# Altium footprint library Components - 18.07.26 - 23.12.PcbLib: 1 footprints
Each footprint in its own frame and in the unit in brackets; x right, y up, seen from the top. Pads: shape width x height; smd on the part's side, far side on the other; paste and mask are expansions set on the pad; w line width, h text height; cw(c..) or ccw(c..) is an arc to the next point about the centre after c.
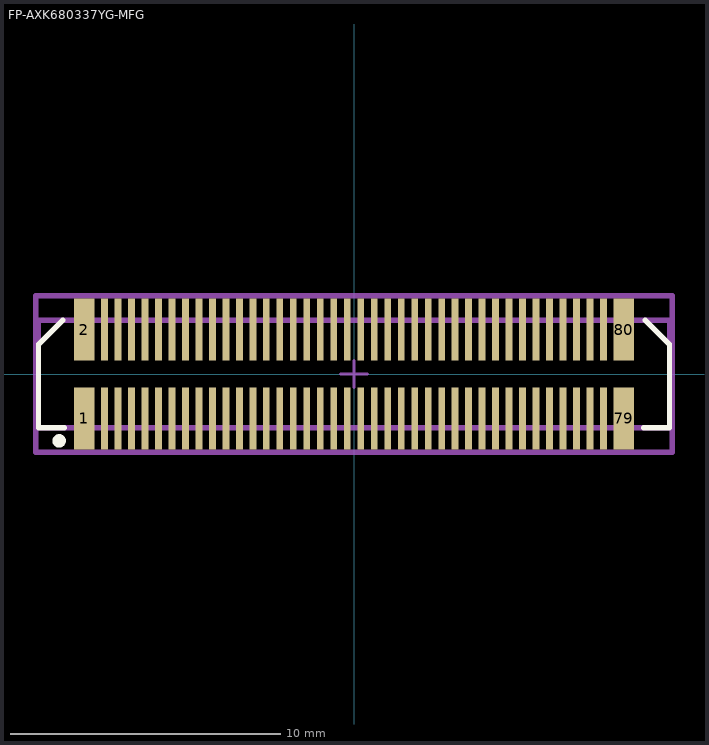
[diagram p0: the footprint, top view; thin cyan lines are the x and y axes]

## FP-AXK680337YG-MFG [mm]
pads (80):
  rect 0.75x2.3 smd paste-1000 mask+0: 1(-10,-1.65) 2(-10,1.65) 79(10,-1.65) 80(10,1.65)
  rect 0.25x2.3 smd paste-1000 mask+0: 3(-9.25,-1.65) 4(-9.25,1.65) 5(-8.75,-1.65) 6(-8.75,1.65) 7(-8.25,-1.65) 8(-8.25,1.65) 9(-7.75,-1.65) 10(-7.75,1.65) 11(-7.25,-1.65) 12(-7.25,1.65) 13(-6.75,-1.65) 14(-6.75,1.65) 15(-6.25,-1.65) 16(-6.25,1.65) 17(-5.75,-1.65) 18(-5.75,1.65) 19(-5.25,-1.65) 20(-5.25,1.65) 21(-4.75,-1.65) 22(-4.75,1.65) 23(-4.25,-1.65) 24(-4.25,1.65) 25(-3.75,-1.65) 26(-3.75,1.65) 27(-3.25,-1.65) 28(-3.25,1.65) 29(-2.75,-1.65) 30(-2.75,1.65) 31(-2.25,-1.65) 32(-2.25,1.65) 33(-1.75,-1.65) 34(-1.75,1.65) 35(-1.25,-1.65) 36(-1.25,1.65) 37(-0.75,-1.65) 38(-0.75,1.65) 39(-0.25,-1.65) 40(-0.25,1.65) 41(0.25,-1.65) 42(0.25,1.65) 43(0.75,-1.65) 44(0.75,1.65) 45(1.25,-1.65) 46(1.25,1.65) 47(1.75,-1.65) 48(1.75,1.65) 49(2.25,-1.65) 50(2.25,1.65) 51(2.75,-1.65) 52(2.75,1.65) 53(3.25,-1.65) 54(3.25,1.65) 55(3.75,-1.65) 56(3.75,1.65) 57(4.25,-1.65) 58(4.25,1.65) 59(4.75,-1.65) 60(4.75,1.65) 61(5.25,-1.65) 62(5.25,1.65) 63(5.75,-1.65) 64(5.75,1.65) 65(6.25,-1.65) 66(6.25,1.65) 67(6.75,-1.65) 68(6.75,1.65) 69(7.25,-1.65) 70(7.25,1.65) 71(7.75,-1.65) 72(7.75,1.65) 73(8.25,-1.65) 74(8.25,1.65) 75(8.75,-1.65) 76(8.75,1.65) 77(9.25,-1.65) 78(9.25,1.65)
Top Overlay:
  circle w0.25: c-10.935,-2.48 r0.125
  lines w0.2: -10.8,2 -11.7,1.1 -11.7,-2 -10.75,-2 ; 10.75,-2 11.7,-2 11.7,1.1 10.8,2
Top Paste:
  rectangle: 9.635,-2.8 9.985,-0.85
  rectangle: 9.135,-2.8 9.365,-0.85
  rectangle: 8.635,-2.8 8.865,-0.85
  rectangle: 8.135,-2.8 8.365,-0.85
  rectangle: 7.635,-2.8 7.865,-0.85
  rectangle: 7.135,-2.8 7.365,-0.85
  rectangle: 6.635,-2.8 6.865,-0.85
  rectangle: 6.135,-2.8 6.365,-0.85
  rectangle: 5.635,-2.8 5.865,-0.85
  rectangle: 5.135,-2.8 5.365,-0.85
  rectangle: 4.635,-2.8 4.865,-0.85
  rectangle: 4.135,-2.8 4.365,-0.85
  rectangle: 3.635,-2.8 3.865,-0.85
  rectangle: 3.135,-2.8 3.365,-0.85
  rectangle: 2.635,-2.8 2.865,-0.85
  rectangle: 2.135,-2.8 2.365,-0.85
  rectangle: 1.635,-2.8 1.865,-0.85
  rectangle: 1.135,-2.8 1.365,-0.85
  rectangle: 0.635,-2.8 0.865,-0.85
  rectangle: 0.135,-2.8 0.365,-0.85
  rectangle: -0.365,-2.8 -0.135,-0.85
  rectangle: -0.865,-2.8 -0.635,-0.85
  rectangle: -1.365,-2.8 -1.135,-0.85
  rectangle: -1.865,-2.8 -1.635,-0.85
  rectangle: -2.365,-2.8 -2.135,-0.85
  rectangle: -2.865,-2.8 -2.635,-0.85
  rectangle: -3.365,-2.8 -3.135,-0.85
  rectangle: -3.865,-2.8 -3.635,-0.85
  rectangle: -4.365,-2.8 -4.135,-0.85
  rectangle: -4.865,-2.8 -4.635,-0.85
  rectangle: -5.365,-2.8 -5.135,-0.85
  rectangle: -5.865,-2.8 -5.635,-0.85
  rectangle: -6.365,-2.8 -6.135,-0.85
  rectangle: -6.865,-2.8 -6.635,-0.85
  rectangle: -7.365,-2.8 -7.135,-0.85
  rectangle: -7.865,-2.8 -7.635,-0.85
  rectangle: -8.365,-2.8 -8.135,-0.85
  rectangle: -8.865,-2.8 -8.635,-0.85
  rectangle: -9.365,-2.8 -9.135,-0.85
  rectangle: -9.985,-2.8 -9.635,-0.85
  rectangle: 9.635,0.85 9.985,2.8
  rectangle: 9.135,0.85 9.365,2.8
  rectangle: 8.635,0.85 8.865,2.8
  rectangle: 8.135,0.85 8.365,2.8
  rectangle: 7.635,0.85 7.865,2.8
  rectangle: 7.135,0.85 7.365,2.8
  rectangle: 6.635,0.85 6.865,2.8
  rectangle: 6.135,0.85 6.365,2.8
  rectangle: 5.635,0.85 5.865,2.8
  rectangle: 5.135,0.85 5.365,2.8
  rectangle: 4.635,0.85 4.865,2.8
  rectangle: 4.135,0.85 4.365,2.8
  rectangle: 3.635,0.85 3.865,2.8
  rectangle: 3.135,0.85 3.365,2.8
  rectangle: 2.635,0.85 2.865,2.8
  rectangle: 2.135,0.85 2.365,2.8
  rectangle: 1.635,0.85 1.865,2.8
  rectangle: 1.135,0.85 1.365,2.8
  rectangle: 0.635,0.85 0.865,2.8
  rectangle: 0.135,0.85 0.365,2.8
  rectangle: -0.365,0.85 -0.135,2.8
  rectangle: -0.865,0.85 -0.635,2.8
  rectangle: -1.365,0.85 -1.135,2.8
  rectangle: -1.865,0.85 -1.635,2.8
  rectangle: -2.365,0.85 -2.135,2.8
  rectangle: -2.865,0.85 -2.635,2.8
  rectangle: -3.365,0.85 -3.135,2.8
  rectangle: -3.865,0.85 -3.635,2.8
  rectangle: -4.365,0.85 -4.135,2.8
  rectangle: -4.865,0.85 -4.635,2.8
  rectangle: -5.365,0.85 -5.135,2.8
  rectangle: -5.865,0.85 -5.635,2.8
  rectangle: -6.365,0.85 -6.135,2.8
  rectangle: -6.865,0.85 -6.635,2.8
  rectangle: -7.365,0.85 -7.135,2.8
  rectangle: -7.865,0.85 -7.635,2.8
  rectangle: -8.365,0.85 -8.135,2.8
  rectangle: -8.865,0.85 -8.635,2.8
  rectangle: -9.365,0.85 -9.135,2.8
  rectangle: -9.985,0.85 -9.635,2.8
Top Assembly:
  lines w0.2: -11.8,-2.9 -11.8,2.9 11.8,2.9 11.8,-2.9 -11.8,-2.9
  text ".Designator" at 0,0.188 h1
Top 3D Body:
  lines w0.2: -11.7,-2 -11.7,2 11.7,2 11.7,-2 -11.7,-2
Top Courtyard:
  lines w0.2: -11.8,-2.9 -11.8,2.9 11.8,2.9 11.8,-2.9 -11.8,-2.9
Top Component Center:
  lines w0.1: -0.5,0 0.5,0 ; 0,-0.5 0,0.5
3D body "Conn_Panasonic_AXK680337YG_eec.STEP": height 0.25, standoff 0, extent -11.8,-2.9 11.8,2.9